# EAGLE library part MA32-1 (library dadamachines)
Pin Header
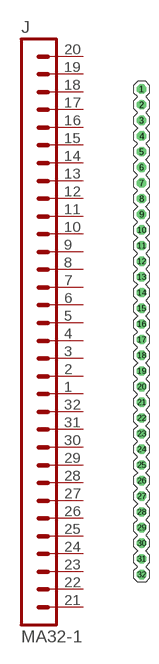
[diagram p15: symbol with the pads of MA32-1; footprint MA32-1]

Designator prefix J

## MA32-1  [MA32-1]
1  1  pas
2  2  pas
3  3  pas
4  4  pas
5  5  pas
6  6  pas
7  7  pas
8  8  pas
9  9  pas
10  10  pas
11  11  pas
12  12  pas
13  13  pas
14  14  pas
15  15  pas
16  16  pas
17  17  pas
18  18  pas
19  19  pas
20  20  pas
21  21  pas
22  22  pas
23  23  pas
24  24  pas
25  25  pas
26  26  pas
27  27  pas
28  28  pas
29  29  pas
30  30  pas
31  31  pas
32  32  pas

## Footprint MA32-1 (pad centres in mm)
drill 1 octagon: 1 0,39.37; 2 0,36.83; 3 0,34.29; 4 0,31.75; 5 0,29.21; 6 0,26.67; 7 0,24.13; 8 0,21.59; 9 0,19.05; 10 0,16.51; 11 0,13.97; 12 0,11.43; 13 0,8.89; 14 0,6.35; 15 0,3.81; 16 0,1.27; 17 0,-1.27; 18 0,-3.81; 19 0,-6.35; 20 0,-8.89; 21 0,-11.43; 22 0,-13.97; 23 0,-16.51; 24 0,-19.05; 25 0,-21.59; 26 0,-24.13; 27 0,-26.67; 28 0,-29.21; 29 0,-31.75; 30 0,-34.29; 31 0,-36.83; 32 0,-39.37